# EAGLE library part KAMODBAR-SPI (library KAMODBAR-SPI)
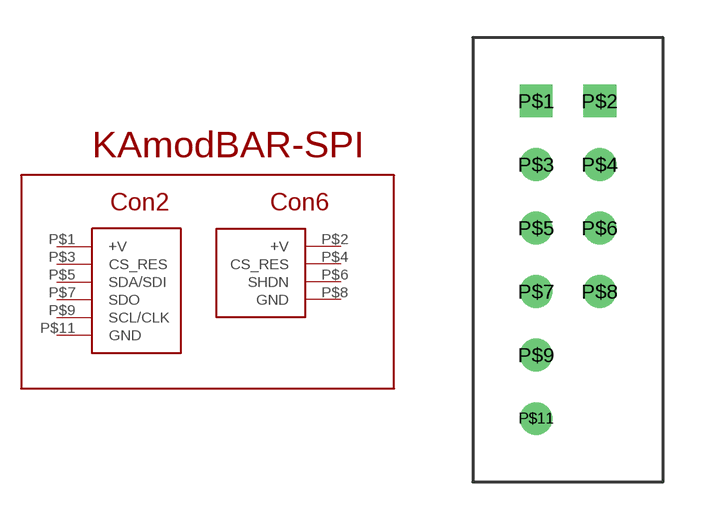
[diagram p0: symbol with the pads of KAMODBAR-SPI; footprint KAMODBAR-SPI]

Designator prefix -

## KAMODBAR-SPI  [KAMODBAR-SPI]
P$1  +V
P$2  +V
P$3  CS_RES
P$4  CS_RES
P$5  SDA/SDI
P$6  SHDN
P$7  SDO
P$8  GND
P$9  SCL/CLK
P$11  GND

## Footprint KAMODBAR-SPI (pad centres in mm)
drill 0.8 square: P$1 -27.94,30.48; P$2 -25.4,30.48
drill 0.8: P$3 -27.94,27.94; P$4 -25.4,27.94; P$5 -27.94,25.4; P$6 -25.4,25.4; P$7 -27.94,22.86; P$8 -25.4,22.86; P$9 -27.94,20.32; P$11 -27.94,17.78